# Altium footprint library lidar_pcb.PcbLib: 1 footprints
Each footprint in its own frame and in the unit in brackets; x right, y up, seen from the top. Pads: shape width x height; smd on the part's side, far side on the other; paste and mask are expansions set on the pad; w line width, h text height; cw(c..) or ccw(c..) is an arc to the next point about the centre after c.
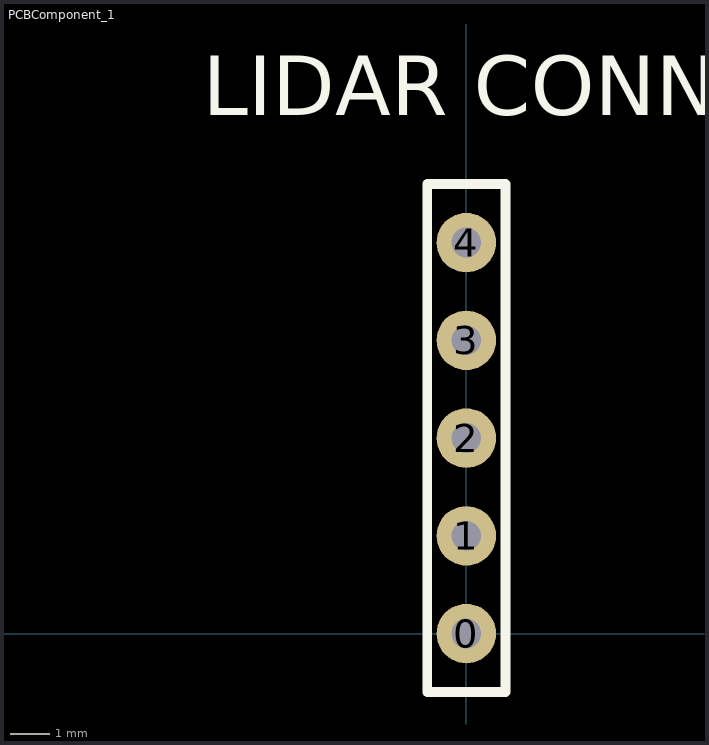
[diagram p0: the footprint, top view; thin cyan lines are the x and y axes]

## PCBComponent_1 [mil]
pads (5):
  round 60 hole 30: 0(0,0) 1(0,98.43) 2(0,196.85) 3(0,295.28) 4(0,393.7)
Top Overlay:
  lines w10: -39.37,-59.06 -39.37,452.76 39.37,452.76 39.37,-59.06 -39.37,-59.06
  text "LIDAR CONN" at -265.59,521.81 h60